# EAGLE library part AT32UC3A3256 (library my_ic)
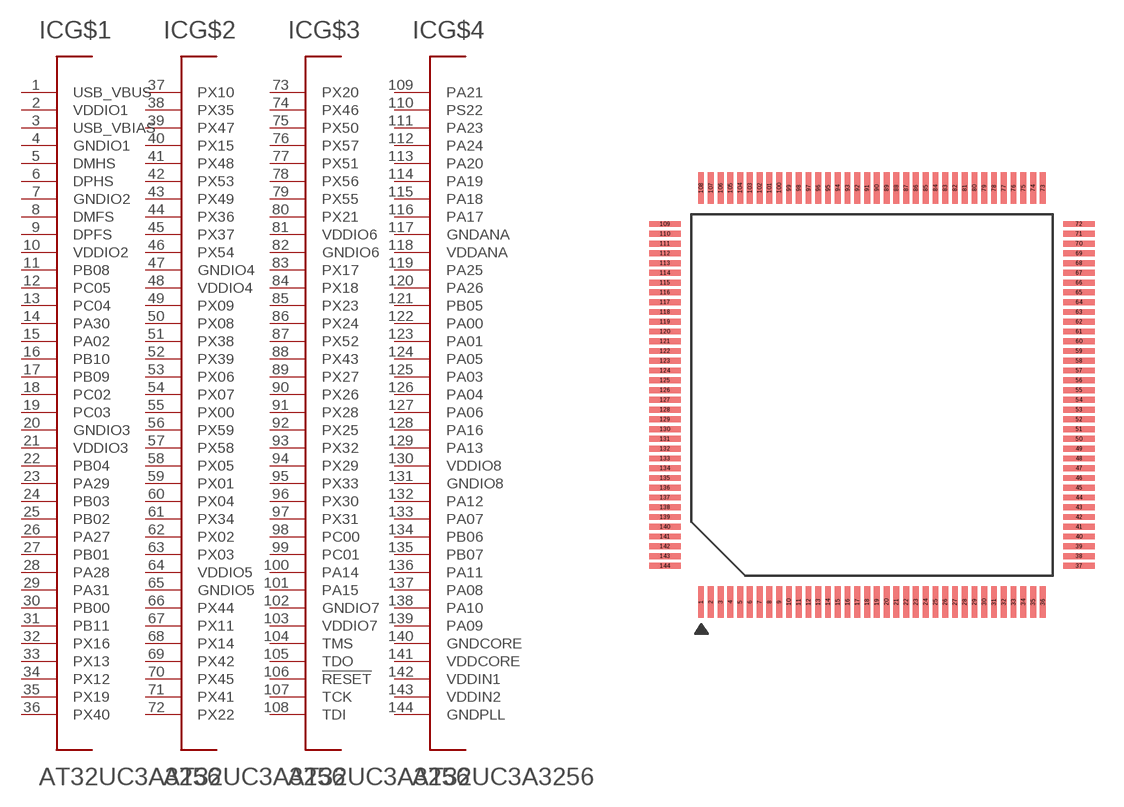
[diagram p12: symbol with the pads of TQFP144; footprint TQFP144]

Designator prefix IC; gates G$1=AT32UC3A3-1 G$2=AT32UC3A3-2 G$3=AT32UC3A3-3 G$4=AT32UC3A3-4

## AT32UC3A3256  [TQFP144]
1  G$1:USB_VBUS  in
2  G$1:VDDIO1  pwr
3  G$1:USB_VBIAS  in
4  G$1:GNDIO1  pwr
5  G$1:DMHS
6  G$1:DPHS
7  G$1:GNDIO2  pwr
8  G$1:DMFS
9  G$1:DPFS
10  G$1:VDDIO2  pwr
11  G$1:PB08
12  G$1:PC05
13  G$1:PC04
14  G$1:PA30
15  G$1:PA02
16  G$1:PB10
17  G$1:PB09
18  G$1:PC02
19  G$1:PC03
20  G$1:GNDIO3  pwr
21  G$1:VDDIO3  pwr
22  G$1:PB04
23  G$1:PA29
24  G$1:PB03
25  G$1:PB02
26  G$1:PA27
27  G$1:PB01
28  G$1:PA28
29  G$1:PA31
30  G$1:PB00
31  G$1:PB11
32  G$1:PX16
33  G$1:PX13
34  G$1:PX12
35  G$1:PX19
36  G$1:PX40
37  G$2:PX10
38  G$2:PX35
39  G$2:PX47
40  G$2:PX15
41  G$2:PX48
42  G$2:PX53
43  G$2:PX49
44  G$2:PX36
45  G$2:PX37
46  G$2:PX54
47  G$2:GNDIO4  pwr
48  G$2:VDDIO4  pwr
49  G$2:PX09
50  G$2:PX08
51  G$2:PX38
52  G$2:PX39
53  G$2:PX06
54  G$2:PX07
55  G$2:PX00
56  G$2:PX59
57  G$2:PX58
58  G$2:PX05
59  G$2:PX01
60  G$2:PX04
61  G$2:PX34
62  G$2:PX02
63  G$2:PX03
64  G$2:VDDIO5  pwr
65  G$2:GNDIO5  pwr
66  G$2:PX44
67  G$2:PX11
68  G$2:PX14
69  G$2:PX42
70  G$2:PX45
71  G$2:PX41
72  G$2:PX22
73  G$3:PX20
74  G$3:PX46
75  G$3:PX50
76  G$3:PX57
77  G$3:PX51
78  G$3:PX56
79  G$3:PX55
80  G$3:PX21
81  G$3:VDDIO6  pwr
82  G$3:GNDIO6  pwr
83  G$3:PX17
84  G$3:PX18
85  G$3:PX23
86  G$3:PX24
87  G$3:PX52
88  G$3:PX43
89  G$3:PX27
90  G$3:PX26
91  G$3:PX28
92  G$3:PX25
93  G$3:PX32
94  G$3:PX29
95  G$3:PX33
96  G$3:PX30
97  G$3:PX31
98  G$3:PC00
99  G$3:PC01
100  G$3:PA14
101  G$3:PA15
102  G$3:GNDIO7  pwr
103  G$3:VDDIO7  pwr
104  G$3:TMS
105  G$3:TDO
106  G$3:!RESET  in
107  G$3:TCK
108  G$3:TDI
109  G$4:PA21
110  G$4:PS22
111  G$4:PA23
112  G$4:PA24
113  G$4:PA20
114  G$4:PA19
115  G$4:PA18
116  G$4:PA17
117  G$4:GNDANA  pwr
118  G$4:VDDANA  pwr
119  G$4:PA25
120  G$4:PA26
121  G$4:PB05
122  G$4:PA00
123  G$4:PA01
124  G$4:PA05
125  G$4:PA03
126  G$4:PA04
127  G$4:PA06
128  G$4:PA16
129  G$4:PA13
130  G$4:VDDIO8  pwr
131  G$4:GNDIO8  pwr
132  G$4:PA12
133  G$4:PA07
134  G$4:PB06
135  G$4:PB07
136  G$4:PA11
137  G$4:PA08
138  G$4:PA10
139  G$4:PA09
140  G$4:GNDCORE  pwr
141  G$4:VDDCORE  pwr
142  G$4:VDDIN1  pwr
143  G$4:VDDIN2  pwr
144  G$4:GNDPLL  pwr

## Footprint TQFP144 (pad centres in mm)
QFP144 shrink quad flat pack, square (smd-ipc)
smd 0.3 x 1.6: 1 -8.75,-10.6; 2 -8.25,-10.6; 3 -7.75,-10.6; 4 -7.25,-10.6; 5 -6.75,-10.6; 6 -6.25,-10.6; 7 -5.75,-10.6; 8 -5.25,-10.6; 9 -4.75,-10.6; 10 -4.25,-10.6; 11 -3.75,-10.6; 12 -3.25,-10.6; 13 -2.75,-10.6; 14 -2.25,-10.6; 15 -1.75,-10.6; 16 -1.25,-10.6; 17 -0.75,-10.6; 18 -0.25,-10.6; 19 0.25,-10.6; 20 0.75,-10.6; 21 1.25,-10.6; 22 1.75,-10.6; 23 2.25,-10.6; 24 2.75,-10.6; 25 3.25,-10.6; 26 3.75,-10.6; 27 4.25,-10.6; 28 4.75,-10.6; 29 5.25,-10.6; 30 5.75,-10.6; 31 6.25,-10.6; 32 6.75,-10.6; 33 7.25,-10.6; 34 7.75,-10.6; 35 8.25,-10.6; 36 8.75,-10.6; 73 8.75,10.6; 74 8.25,10.6; 75 7.75,10.6; 76 7.25,10.6; 77 6.75,10.6; 78 6.25,10.6; 79 5.75,10.6; 80 5.25,10.6; 81 4.75,10.6; 82 4.25,10.6; 83 3.75,10.6; 84 3.25,10.6; 85 2.75,10.6; 86 2.25,10.6; 87 1.75,10.6; 88 1.25,10.6; 89 0.75,10.6; 90 0.25,10.6; 91 -0.25,10.6; 92 -0.75,10.6; 93 -1.25,10.6; 94 -1.75,10.6; 95 -2.25,10.6; 96 -2.75,10.6; 97 -3.25,10.6; 98 -3.75,10.6; 99 -4.25,10.6; 100 -4.75,10.6; 101 -5.25,10.6; 102 -5.75,10.6; 103 -6.25,10.6; 104 -6.75,10.6; 105 -7.25,10.6; 106 -7.75,10.6; 107 -8.25,10.6; 108 -8.75,10.6
smd 1.6 x 0.3: 37 10.6,-8.75; 38 10.6,-8.25; 39 10.6,-7.75; 40 10.6,-7.25; 41 10.6,-6.75; 42 10.6,-6.25; 43 10.6,-5.75; 44 10.6,-5.25; 45 10.6,-4.75; 46 10.6,-4.25; 47 10.6,-3.75; 48 10.6,-3.25; 49 10.6,-2.75; 50 10.6,-2.25; 51 10.6,-1.75; 52 10.6,-1.25; 53 10.6,-0.75; 54 10.6,-0.25; 55 10.6,0.25; 56 10.6,0.75; 57 10.6,1.25; 58 10.6,1.75; 59 10.6,2.25; 60 10.6,2.75; 61 10.6,3.25; 62 10.6,3.75; 63 10.6,4.25; 64 10.6,4.75; 65 10.6,5.25; 66 10.6,5.75; 67 10.6,6.25; 68 10.6,6.75; 69 10.6,7.25; 70 10.6,7.75; 71 10.6,8.25; 72 10.6,8.75; 109 -10.6,8.75; 110 -10.6,8.25; 111 -10.6,7.75; 112 -10.6,7.25; 113 -10.6,6.75; 114 -10.6,6.25; 115 -10.6,5.75; 116 -10.6,5.25; 117 -10.6,4.75; 118 -10.6,4.25; 119 -10.6,3.75; 120 -10.6,3.25; 121 -10.6,2.75; 122 -10.6,2.25; 123 -10.6,1.75; 124 -10.6,1.25; 125 -10.6,0.75; 126 -10.6,0.25; 127 -10.6,-0.25; 128 -10.6,-0.75; 129 -10.6,-1.25; 130 -10.6,-1.75; 131 -10.6,-2.25; 132 -10.6,-2.75; 133 -10.6,-3.25; 134 -10.6,-3.75; 135 -10.6,-4.25; 136 -10.6,-4.75; 137 -10.6,-5.25; 138 -10.6,-5.75; 139 -10.6,-6.25; 140 -10.6,-6.75; 141 -10.6,-7.25; 142 -10.6,-7.75; 143 -10.6,-8.25; 144 -10.6,-8.75